# Altium schematic symbol library DC Switch Matrix.SCHLIB: 13 symbols
Pins are listed as number, name and electrical type; pins without a type are passive.

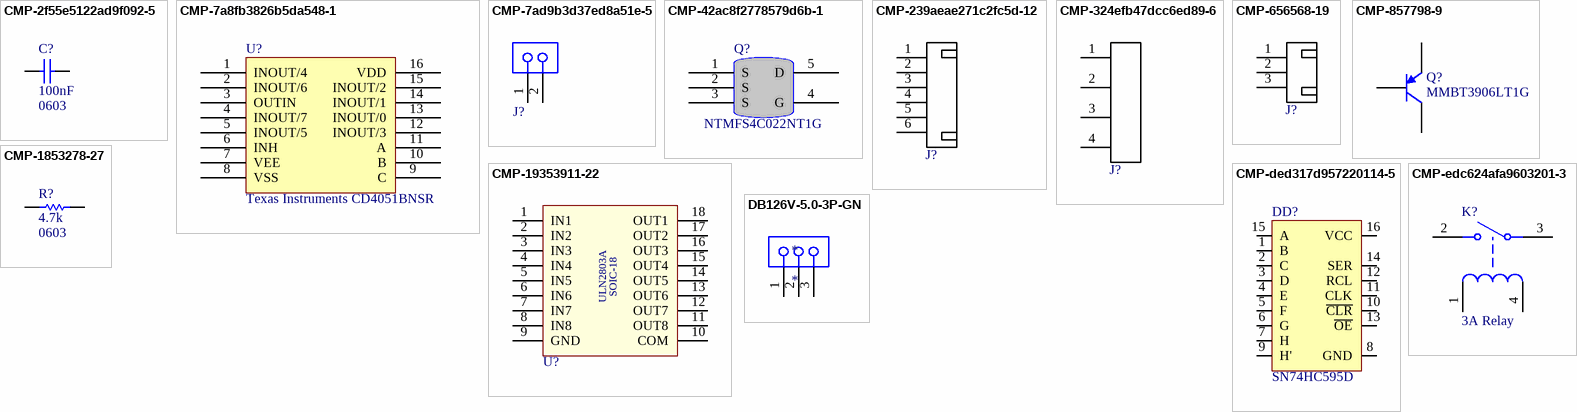
[diagram p0: symbols CMP-2f55e5122ad9f092-5 to DB126V-5.0-3P-GN]

## CMP-2f55e5122ad9f092-5
designator C?, comment 100nF  Package / Case: 0603
0603 10 nF 50 V ± 10% Tolerance X7R Surface Mount Multilayer Ceramic Capacitor; Manufacture Part Number: CC0603KRX7R9BB104; Manufacturer: YAGEO; Voltage-Rated: 50V; Capacitance Tolerance: 10%; Capacitance: 100nF; Supplier: LCSC; Supplier Part Number: C14663
footprint CAPC1608X90X35NL15T15
footprint CAPC1608X90X35LL15T15
simulation model SIM-no9t85n8kjw1vco1f364-1 (Sim Model - AVX 06035C103KAT2A)
footprint CAPC1608X90X35ML15T15
footprint CAPC1608X09N (Footprint - 10nF)
pins: 1, 2

## CMP-7a8fb3826b5da548-1
designator U?, comment Texas Instruments CD4051BNSR
20-V, 8: 1, 1-channel analog multiplexer with logic-level conversion 16-SO -55 to 125; Bandwidth: 20.0 MHz; Lead-Free Status: Lead Free; Number of Bits: 8; Number of Circuits: 1; Polarity: Non-Inverting; Propagation Delay Max (tpd): 20.0 ns; Quiescent Current: 80.0 nA; Supply Current: 100 µA; Supply Voltage (DC): 15.0 V; Voltage Nodes: 10.0 V, 5.00 V, 15.0 V; Octopart URL: https://octopart.com/cd4051bnsr-texas+instruments-472244; Manufacture Part Number: CD4051BNSR; Case/Package: PDIP, SOIC, SOP; Lifecycle Status: Active; Mounting Style: Surface Mount; Number of Channels: 8; Operating Temperature: -55.0 °C to 125 °C; Packaging: SOIC-16_208mil; Number of Pins: 16; RoHS: Compliant; OctopartID: 7a8fb3826b5da548; Supplier Part Number: C87646; Supplier: LCSC; Manufacturer: Texas Instruments
footprint PCB-xp4qbii5l2bbflfsgoli-1 (SOP, 16-Leads, Body 10.2x5.3mm, Pitch 1.27mm, IPC Medium Density)
pins: 1 INOUT/4, 2 INOUT/6, 3 OUTIN, 4 INOUT/7, 5 INOUT/5, 6 INH, 7 VEE, 8 VSS, 9 C, 10 B, 11 A, 12 INOUT/3, 13 INOUT/0, 14 INOUT/1, 15 INOUT/2, 16 VDD

## CMP-7ad9b3d37ed8a51e-5
designator J?, comment DB126V-5.0-2P-GN  (value not drawn)
Block, Terminal; 13.5 A; 250 V; 5 mm; 26 to 16 AWG; 2; Screw; Solder; 4 kV; PA; Manufacturer: DIBO; Pin pitch: 5.0mm; Manufacture Part Number: DB126V-5.0-2P-GN; Supplier: LCSC; Supplier Part Number: C395849
footprint PCB-kiok1jlp9o9fcwf1wwvf-1 (Footprint - Phoenix Contact 1729018)
pins: 1, 2

## CMP-42ac8f2778579d6b-1
designator Q?, comment NTMFS4C022NT1G
Power MOSFET 30V 136A 1.7 mOhm Single N?Channel SO?8FL; Manufacturer: ON Semiconductor; Lead-Free Status: Lead Free; Octopart URL: https://octopart.com/ntmfs4c022nt1g-on+semiconductor-75571101; Manufacture Part Number: NTMFS4C022NT1G; Lifecycle Status: Active; RoHS: Compliant; OctopartID: 42ac8f2778579d6b; Supplier: LCSC; Supplier Part Number: C179623
footprint PCB-iok221h7g3hg093tnixb-1 (Footprint - ON Semiconductor NTMFS4C022NT1G)
pins: 1 S, 2 S, 3 S, 4 G, 5 D

## CMP-239aeae271c2fc5d-12
designator J?, comment JST S6B-XH-A  (value not drawn)
Socket; wire-board; male; PIN: 6; 2.5mm; THT; XH; 250V; 3A; -25÷85°C; Manufacturer: JST Sales America; Manufacture Part Number: S6B-XH-A(LF)(SN); Lead-Free Status: Lead Free; Voltage Rating (AC): 250 V; Orientation: Right Angle; Supplier: LCSC; Supplier Part Number: C157919
footprint JST S6B-XH-A (Footprint - JST S6B-XH-A (LF)(SN))
pins: 1, 2, 3, 4, 5, 6

## CMP-324efb47dcc6ed89-6
designator J?, comment JST B4PS-VH(LF)(SN)  (value not drawn)
Connector Header, VH Series, 4 Position, 3.96mm, 250V, 22-16 AWG, Side Entry, Natural; Manufacture Part Number: B8PS-VH(LF)(SN); Manufacturer: JST Sales America; Current Rating: 7.00 A; Pin Pitch: 3.96 mm; Supplier: LCSC; Supplier Part Number: C157970
footprint PCB-fv0n1qe7e7tw0owzte2c-1 (Footprint - JST B4PS-VH(LF)(SN))
pins: 1, 2, 3, 4

## CMP-656568-19
designator J?, comment CN-1P-M-R3  (value not drawn)
Male Header, Pitch 2.5 mm, 1 x 3 Position, Height 6.1 mm, Tail Length 3.4 mm, -25 to 85 degC, RoHS, Bulk; Manufacture Part Number: S3B-XH-A(LF)(SN); Manufacturer: JST Sales America; Number of Contacts: 3; Current Rating: 3.00 A; Lead-Free Status: Lead Free; Insulation Resistance: 1.00 GΩ; RoHS: Compliant; PackageDescription: Male Header, Pitch 2.5 mm, 1 x 3 Position, Height 6.1 mm, Tail Length 3.4 mm; Gender: Male; Mounting Style: Through Hole; PackageReference: S3B-XH-A(LF)(SN); Supplier Part Number: C157928; Supplier: LCSC
footprint PCB-gkc5locju3cpl89w24hk-1 (Footprint - JST S3B-XH-A(LF)(SN))
footprint JST-S3B-XH-A(LF)(SN)_V (Header, 3-Leads, Body 9.9x11.5mm, Pitch 2.5mm)
pins: 1, 2, 3

## CMP-857798-9
designator Q?, comment MMBT3906LT1G
Bipolar (BJT) Single Transistor, General Purpose, PNP, -40 V, 250 MHz, 225 mW, -200 mA, 300; Manufacturer: ON Semiconductor; Voltage Rating (DC): -40.0 V; Current Rating: -200 mA; Polarity: PNP; RoHS: Compliant; Mounting Style: Surface Mount; Lifecycle Status: Active; REACH SVHC Compliance: No SVHC; Supplier: LCSC; Supplier Part Number: C53444; OctopartID: 79f4b3b314a6a633; Breakdown Voltage [Collector to Emitter]: -40.0 V; Manufacture Part Number: MMBT3906LT1G; Package / Case: SOT-23
footprint SOT-23 (Footprint - ON Semiconductor MMBT3906LT1G)
pins: 1 B, 2 E, 3 C

## CMP-1853278-27
designator R?, comment 4.7k  Package / Case: 0603
Surface Mount Thick Film Resistor, RC Series, 1 kohm, 100 mW, - 1%, 50 V, 0603 [1608 Metric]; Manufacturer: YAGEO; Manufacture Part Number: RC0603FR-074K7L; Resistance Tolerance: 1%; Supplier: LCSC; Supplier Part Number: C99782; Resistance: 4.7k
footprint PCB-c56upckieq4snpr883xl-1 (Footprint - Yageo RC0603FR-071KL)
footprint PCB-flrvdajmcioznvlehhsq-1 (Footprint - Yageo RC0603FR-0710KL)
footprint gen0603-2 (Footprint - Yageo RC0603FR-071KL)
footprint PCB-3hliodl2wc5u86wutd2h-1 (Footprint - Yageo RC0603FR-071KL)
footprint R0603 (Footprint - Yageo RC0603FR-071KL)
footprint RESC1608X55X25NL10T15 (Footprint - Yageo RC0603FR-071KL)
footprint PCB-3elf45qdqizoabmczrxc-1 (Footprint - Yageo RC0603FR-071KL)
pins: 1, 2
1 alternate drawing of the same symbol

## CMP-19353911-22
designator U?, comment ULN2803A (SOIC-18)  (value not drawn)
Bipolar (BJT) Array Transistor, Darlington, NPN, 50 V, 500 mA, SOIC; Manufacturer: Mixic; Manufacture Part Number: ULN2803A; Supplier: LCSC; Supplier Part Number: C107219; Package / Case: SOP-18_300mil
footprint PCB-gcdku7p92m9mz9ih2yin-1 (Footprint - ULN2803A (SOIC-18))
pins: 1 IN1, 2 IN2, 3 IN3, 4 IN4, 5 IN5, 6 IN6, 7 IN7, 8 IN8, 9 GND (power), 10 COM (power), 11 OUT8 (power), 12 OUT7 (power), 13 OUT6 (power), 14 OUT5 (power), 15 OUT4 (power), 16 OUT3 (power), 17 OUT2 (power), 18 OUT1 (power)
text: SOIC-18

## CMP-ded317d957220114-5
designator DD?, comment SN74HC595D
Shift Register Single 8-Bit Serial to Serial/Parallel 16-Pin SOIC Tube; Manufacture Part Number: 74HC595D,118; Manufacturer: Nexperia; Supplier: LCSC; Supplier Part Number: C5947; Package / Case: SOIC-16_150mil
footprint PCB-ocmcq683bsiu4pbe2rlg-1 (Footprint - Texas Instruments SN74HC595D)
footprint PCB-72k1vk0k27b6qyyenbg0-1 (Footprint - Texas Instruments SN74HC595D)
pins: 1 B, 2 C, 3 D, 4 E, 5 F, 6 G, 7 H, 8 GND, 9 H', 10 ~{CLR}, 11 CLK, 12 RCL, 13 ~{OE}, 14 SER, 15 A, 16 VCC

## CMP-edc624afa9603201-3
designator K?, comment 3A Relay
Power Relay 12VDC 3DC/5AAC SPST-NO( (20.5mm 7.2mm 15.3mm)) THT; Manufacturer: Omron Electronics; Manufacture Part Number: G5NB-1A-E-DC12; Supplier: LCSC; Supplier Part Number: C225714; Current-Rated: 3A
footprint PCB-ei6nokn2irsc2a7yt94x-1 (Footprint - Omron G5NB-1A-E-DC5V)
pins: 1, 2, 3, 4

## DB126V-5.0-3P-GN
designator *
Manufacturer: DIBO; Manufacture Part Number: DB126V-5.0-3P-GN; Supplier: LCSC; Supplier Part Number: C395850
footprint CONN-TH_3P-P5.00_DB126V-5.0-3P
pins: 1, 2, 3